# EAGLE library part DP3T (library scono)
https://www.digikey.com/product-detail/en/c-k/JS203011JCQN/CKN10725CT-ND/6137639
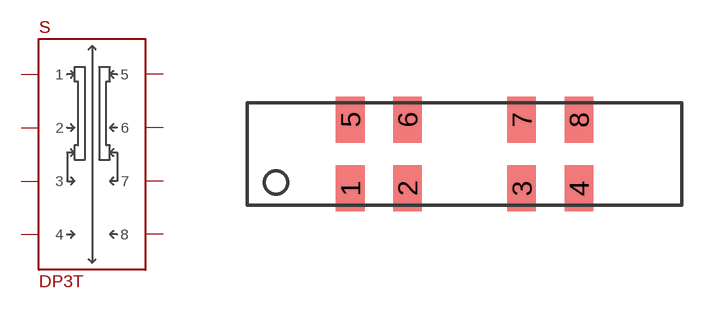
[diagram p44: symbol with the pads of DP3T; footprint DP3T]

Designator prefix S

## DP3T  [DP3T]
1  1
2  2
3  3
4  4
5  5
6  6
7  7
8  8

## Footprint DP3T (pad centres in mm)
smd 1 x 1.6: 1 -4,-1.2; 2 -2,-1.2; 3 2,-1.2; 4 4,-1.2; 5 -4,1.2; 6 -2,1.2; 7 2,1.2; 8 4,1.2